# EAGLE library part SD_PERPENDICULAR_FEMALE (library SD_PERPENDICULAR)
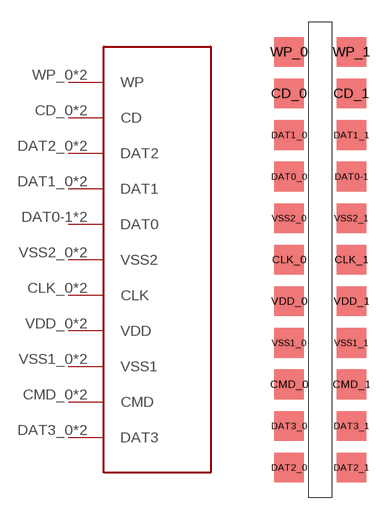
[diagram p1: symbol with the pads of SD_PERPENDICULAR_FEMALE; footprint SD_PERPENDICULAR_FEMALE]

Designator prefix -

## SD_PERPENDICULAR_FEMALE  [SD_PERPENDICULAR_FEMALE]
CD_0  CD
CD_1  CD
CLK_0  CLK
CLK_1  CLK
CMD_0  CMD
CMD_1  CMD
DAT0-1  DAT0
DAT0_0  DAT0
DAT1_0  DAT1
DAT1_1  DAT1
DAT2_0  DAT2
DAT2_1  DAT2
DAT3_0  DAT3
DAT3_1  DAT3
VDD_0  VDD
VDD_1  VDD
VSS1_0  VSS1
VSS1_1  VSS1
VSS2_0  VSS2
VSS2_1  VSS2
WP_0  WP
WP_1  WP

## Footprint SD_PERPENDICULAR_FEMALE (pad centres in mm)
smd 2 x 2: CD_0 -2.1,11.2; CD_1 2.1,11.2; CLK_0 -2.1,0; CLK_1 2.1,0; CMD_0 -2.1,-8.4; CMD_1 2.1,-8.4; DAT0-1 2.1,5.6; DAT0_0 -2.1,5.6; DAT1_0 -2.1,8.4; DAT1_1 2.1,8.4; DAT2_0 -2.1,-14; DAT2_1 2.1,-14; DAT3_0 -2.1,-11.2; DAT3_1 2.1,-11.2; VDD_0 -2.1,-2.8; VDD_1 2.1,-2.8; VSS1_0 -2.1,-5.6; VSS1_1 2.1,-5.6; VSS2_0 -2.1,2.8; VSS2_1 2.1,2.8; WP_0 -2.1,14; WP_1 2.1,14